# Altium schematic symbol library WP-TGCF.SchLib: 2 symbols
Pins are listed as number, name and electrical type; pins without a type are passive.

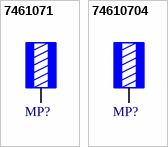
[diagram p0: symbols 7461071 to 74610704]

## 7461071
designator MP?, comment ID 7.3mm  (value not drawn)
WP-TGCF REDCUBE PRESS-FIT two-part ground terminal with circumference pin-plate, L13W13H3.1mm, ID 7.; Manufacturer Part Number: 7461071; Manufacturer: Wurth Elektronik; Rated Current: 240A; Surface: Tin; ComponentLink1Description: Website Link; ComponentLink1URL: https://www.we-online.com/redexpert/article/7461071?ad; ComponentLink2Description: Datasheet Link; ComponentLink2URL: https://www.we-online.com/redexpert/spec/7461071?ad; Category: REDCUBE PRESS-FIT; Match Code: WP-TGCF; Mount: Press Fit; Operating Temperature Max: 150°C; Operating Temperature Min: -55°C; Packaging: Bulk; Length: 13mm; Width: 13mm; Height: 3.1mm; Inner Diameter: 7.3mm; Material: Brass; Number of Pins: 16
footprint 7461071_chemical surface
footprint 7461071_HAL
pins: 1

## 74610704
designator MP?, comment ID 5.5mm  (value not drawn)
WP-TGCF REDCUBE PRESS-FIT two-part ground terminal with circumference pin-plate, L9W9H3.1mm, ID 5.5m; Manufacturer Part Number: 74610704; Manufacturer: Wurth Elektronik; Rated Current: 175A; Surface: Tin; ComponentLink1Description: Website Link; ComponentLink1URL: https://www.we-online.com/redexpert/article/74610704?ad; ComponentLink2Description: Datasheet Link; ComponentLink2URL: https://www.we-online.com/redexpert/spec/74610704?ad; Category: REDCUBE PRESS-FIT; Match Code: WP-TGCF; Mount: Press Fit; Operating Temperature Max: 150°C; Operating Temperature Min: -55°C; Packaging: Bulk; Length: 9mm; Width: 9mm; Height: 3.1mm; Inner Diameter: 5.5mm; Material: Brass; Number of Pins: 12
footprint 74610704_chemical surface
footprint 74610704_HAL
pins: 1